# EAGLE library part MCP4251 (library microchip_digital_pot)
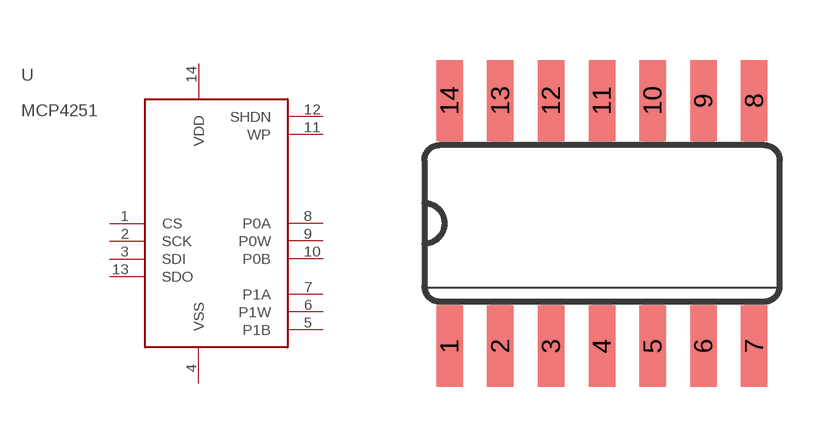
[diagram p0: symbol with the pads of SOIC; footprint SOIC]

Designator prefix -

## MCP4251  [SOIC]
1  CS
2  SCK
3  SDI
4  VSS
5  P1B
6  P1W
7  P1A
8  P0A
9  P0W
10  P0B
11  WP
12  SHDN
13  SDO
14  VDD

## Footprint SOIC (pad centres in mm)
smd 0.66 x 2.032: 1 -3.81,-3.073; 2 -2.54,-3.073; 3 -1.27,-3.073; 4 0,-3.073; 5 1.27,-3.073; 6 2.54,-3.073; 7 3.81,-3.073; 8 3.81,3.073; 9 2.54,3.073; 10 1.27,3.073; 11 0,3.073; 12 -1.27,3.073; 13 -2.54,3.073; 14 -3.81,3.073